# EAGLE library part BNO055_ONE_SIDE (library BNO055)
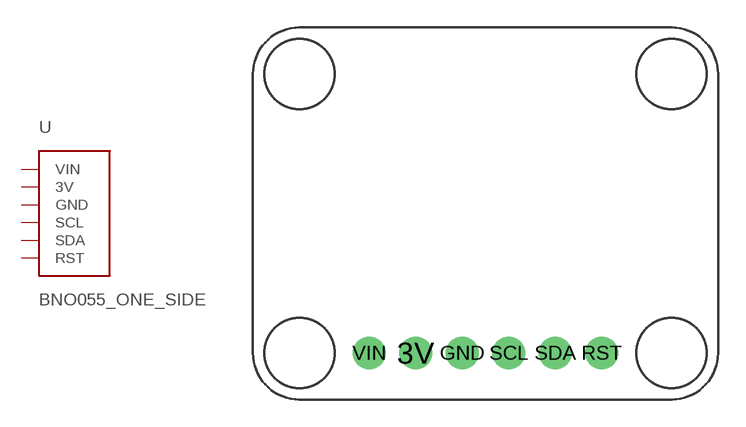
[diagram p1: symbol with the pads of BNO055_ONE_SIDE; footprint BNO055_ONE_SIDE]

Designator prefix -

## BNO055_ONE_SIDE  [BNO055_ONE_SIDE]
3V  3V
GND  GND
RST  RST
SCL  SCL
SDA  SDA
VIN  VIN

## Footprint BNO055_ONE_SIDE (pad centres in mm)
drill 1.016 pad 1.778: 3V -3.81,-7.62; GND -1.27,-7.62; RST 6.35,-7.62; SCL 1.27,-7.62; SDA 3.81,-7.62; VIN -6.35,-7.62